# EAGLE library part SODIMM_BOARD (library BaseApp)
SODIMM BOARD Thickness of board must be 1mm.
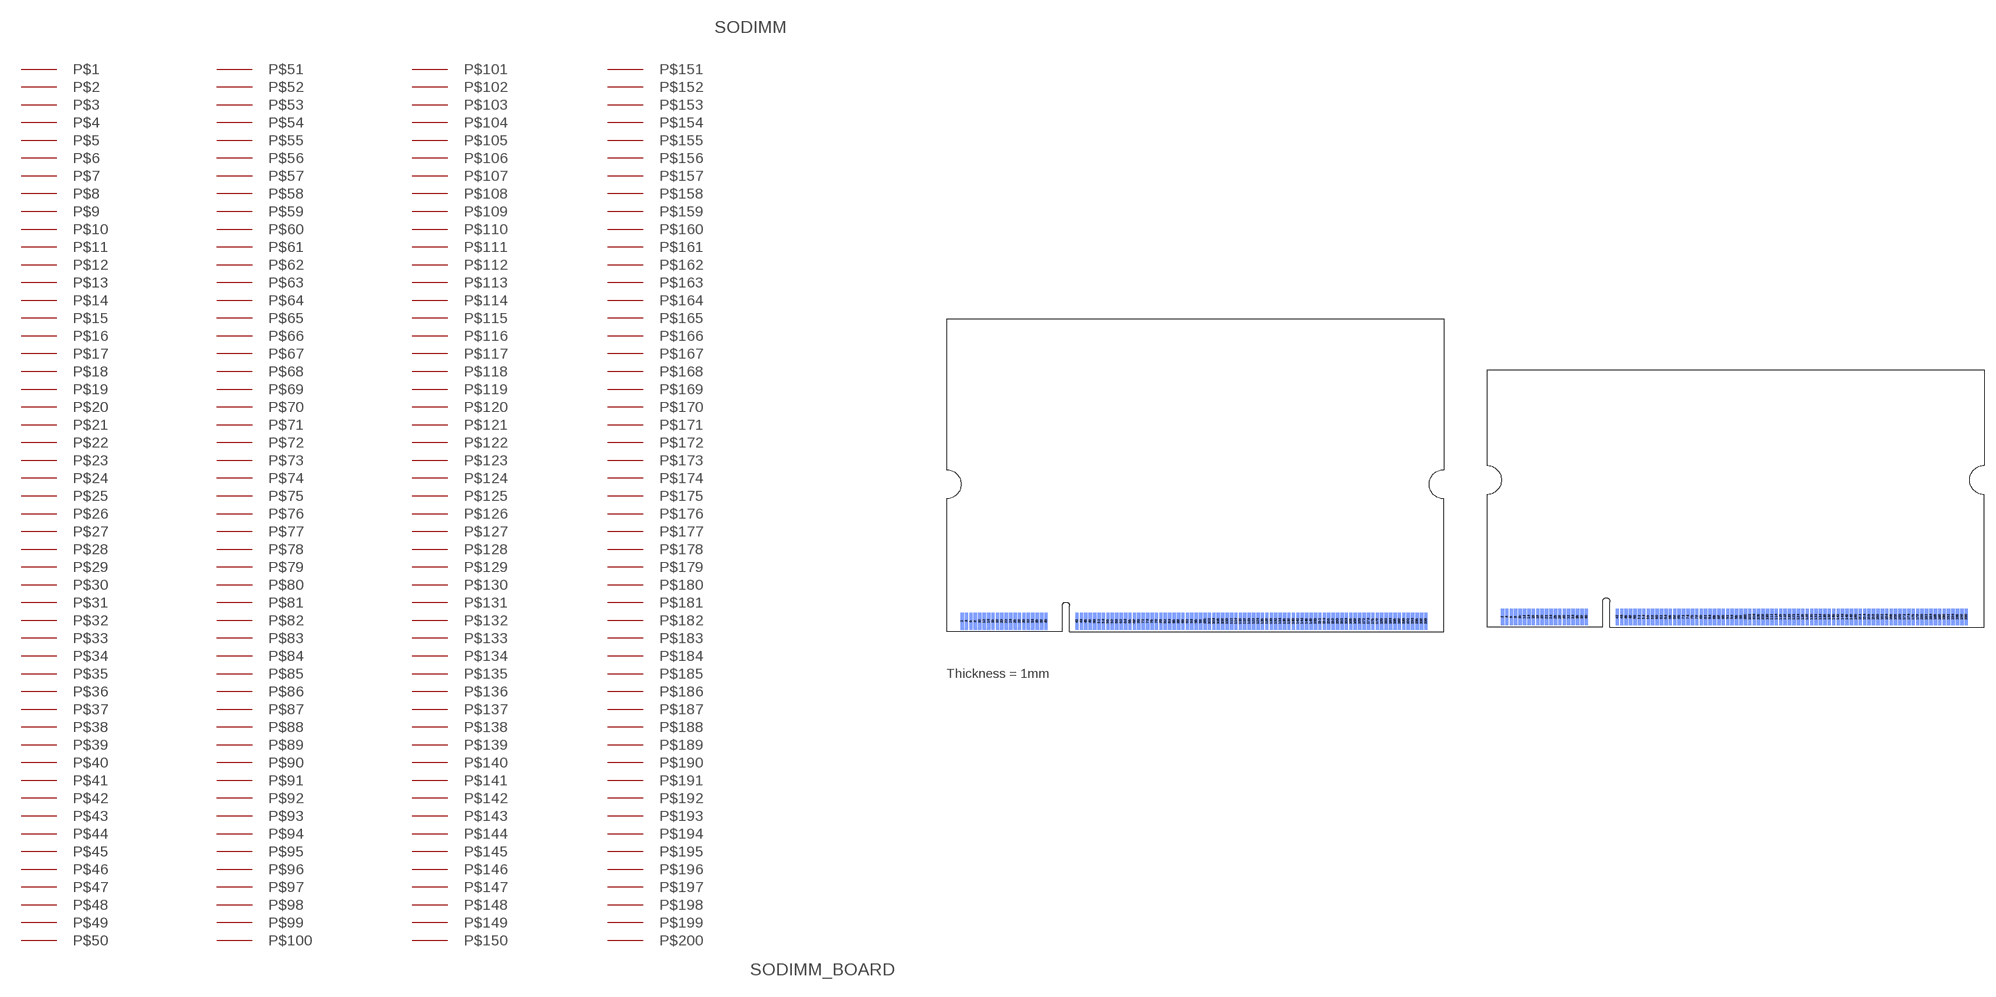
[diagram p11: symbol with the pads of SODIMM_BOARD-67.6X42.5; footprints SODIMM_BOARD-67.6X42.5, SODIMM_BOARD_SMALLER-67.6X35]

Designator prefix SODIMM

## SODIMM_BOARD  [SODIMM_BOARD-67.6X42.5]
1  P$1
2  P$2
3  P$3
4  P$4
5  P$5
6  P$6
7  P$7
8  P$8
9  P$9
10  P$10
11  P$11
12  P$12
13  P$13
14  P$14
15  P$15
16  P$16
17  P$17
18  P$18
19  P$19
20  P$20
21  P$21
22  P$22
23  P$23
24  P$24
25  P$25
26  P$26
27  P$27
28  P$28
29  P$29
30  P$30
31  P$31
32  P$32
33  P$33
34  P$34
35  P$35
36  P$36
37  P$37
38  P$38
39  P$39
40  P$40
41  P$41
42  P$42
43  P$43
44  P$44
45  P$45
46  P$46
47  P$47
48  P$48
49  P$49
50  P$50
51  P$51
52  P$52
53  P$53
54  P$54
55  P$55
56  P$56
57  P$57
58  P$58
59  P$59
60  P$60
61  P$61
62  P$62
63  P$63
64  P$64
65  P$65
66  P$66
67  P$67
68  P$68
69  P$69
70  P$70
71  P$71
72  P$72
73  P$73
74  P$74
75  P$75
76  P$76
77  P$77
78  P$78
79  P$79
80  P$80
81  P$81
82  P$82
83  P$83
84  P$84
85  P$85
86  P$86
87  P$87
88  P$88
89  P$89
90  P$90
91  P$91
92  P$92
93  P$93
94  P$94
95  P$95
96  P$96
97  P$97
98  P$98
99  P$99
100  P$100
101  P$101
102  P$102
103  P$103
104  P$104
105  P$105
106  P$106
107  P$107
108  P$108
109  P$109
110  P$110
111  P$111
112  P$112
113  P$113
114  P$114
115  P$115
116  P$116
117  P$117
118  P$118
119  P$119
120  P$120
121  P$121
122  P$122
123  P$123
124  P$124
125  P$125
126  P$126
127  P$127
128  P$128
129  P$129
130  P$130
131  P$131
132  P$132
133  P$133
134  P$134
135  P$135
136  P$136
137  P$137
138  P$138
139  P$139
140  P$140
141  P$141
142  P$142
143  P$143
144  P$144
145  P$145
146  P$146
147  P$147
148  P$148
149  P$149
150  P$150
151  P$151
152  P$152
153  P$153
154  P$154
155  P$155
156  P$156
157  P$157
158  P$158
159  P$159
160  P$160
161  P$161
162  P$162
163  P$163
164  P$164
165  P$165
166  P$166
167  P$167
168  P$168
169  P$169
170  P$170
171  P$171
172  P$172
173  P$173
174  P$174
175  P$175
176  P$176
177  P$177
178  P$178
179  P$179
180  P$180
181  P$181
182  P$182
183  P$183
184  P$184
185  P$185
186  P$186
187  P$187
188  P$188
189  P$189
190  P$190
191  P$191
192  P$192
193  P$193
194  P$194
195  P$195
196  P$196
197  P$197
198  P$198
199  P$199
200  P$200

## SODIMM_BOARDSMALL  [SODIMM_BOARD_SMALLER-67.6X35]
Pads as for SODIMM_BOARD-67.6X42.5

## SODIMM_BOARDLARGE  [SODIMM-BOARD-67.6X50]
Pads as for SODIMM_BOARD-67.6X42.5

## SODIMM_BOARD-CONNECTOR  [SODIMM-CONNECTOR-2.5V]
Pads as for SODIMM_BOARD-67.6X42.5

## Footprint SODIMM_BOARD-67.6X42.5 (pad centres in mm)
smd 0.45 x 2.3: 1 2.15,1.4; 3 2.75,1.4; 5 3.35,1.4; 7 3.95,1.4; 9 4.55,1.4; 11 5.15,1.4; 13 5.75,1.4; 15 6.35,1.4; 17 6.95,1.4; 19 7.55,1.4; 21 8.15,1.4; 23 8.75,1.4; 25 9.35,1.4; 27 9.95,1.4; 29 10.55,1.4; 31 11.15,1.4; 33 11.75,1.4; 35 12.35,1.4; 37 12.95,1.4; 39 13.55,1.4; 41 17.75,1.4; 43 18.35,1.4; 45 18.95,1.4; 47 19.55,1.4; 49 20.15,1.4; 51 20.75,1.4; 53 21.35,1.4; 55 21.95,1.4; 57 22.55,1.4; 59 23.15,1.4; 61 23.75,1.4; 63 24.35,1.4; 65 24.95,1.4; 67 25.55,1.4; 69 26.15,1.4; 71 26.75,1.4; 73 27.35,1.4; 75 27.95,1.4; 77 28.55,1.4; 79 29.15,1.4; 81 29.75,1.4; 83 30.35,1.4; 85 30.95,1.4; 87 31.55,1.4; 89 32.15,1.4; 91 32.75,1.4; 93 33.35,1.4; 95 33.95,1.4; 97 34.55,1.4; 99 35.15,1.4; 101 35.75,1.4; 103 36.35,1.4; 105 36.95,1.4; 107 37.55,1.4; 109 38.15,1.4; 111 38.75,1.4; 113 39.35,1.4; 115 39.95,1.4; 117 40.55,1.4; 119 41.15,1.4; 121 41.75,1.4; 123 42.35,1.4; 125 42.95,1.4; 127 43.55,1.4; 129 44.15,1.4; 131 44.75,1.4; 133 45.35,1.4; 135 45.95,1.4; 137 46.55,1.4; 139 47.15,1.4; 141 47.75,1.4; 143 48.35,1.4; 145 48.95,1.4; 147 49.55,1.4; 149 50.15,1.4; 151 50.75,1.4; 153 51.35,1.4; 155 51.95,1.4; 157 52.55,1.4; 159 53.15,1.4; 161 53.75,1.4; 163 54.35,1.4; 165 54.95,1.4; 167 55.55,1.4; 169 56.15,1.4; 171 56.75,1.4; 173 57.35,1.4; 175 57.95,1.4; 177 58.55,1.4; 179 59.15,1.4; 181 59.75,1.4; 183 60.35,1.4; 185 60.95,1.4; 187 61.55,1.4; 189 62.15,1.4; 191 62.75,1.4; 193 63.35,1.4; 195 63.95,1.4; 197 64.55,1.4; 199 65.15,1.4
smd 0.45 x 2.3 bottom: 2 2.15,1.4; 4 2.75,1.4; 6 3.35,1.4; 8 3.95,1.4; 10 4.55,1.4; 12 5.15,1.4; 14 5.75,1.4; 16 6.35,1.4; 18 6.95,1.4; 20 7.55,1.4; 22 8.15,1.4; 24 8.75,1.4; 26 9.35,1.4; 28 9.95,1.4; 30 10.55,1.4; 32 11.15,1.4; 34 11.75,1.4; 36 12.35,1.4; 38 12.95,1.4; 40 13.55,1.4; 42 17.75,1.4; 44 18.35,1.4; 46 18.95,1.4; 48 19.55,1.4; 50 20.15,1.4; 52 20.75,1.4; 54 21.35,1.4; 56 21.95,1.4; 58 22.55,1.4; 60 23.15,1.4; 62 23.75,1.4; 64 24.35,1.4; 66 24.95,1.4; 68 25.55,1.4; 70 26.15,1.4; 72 26.75,1.4; 74 27.35,1.4; 76 27.95,1.4; 78 28.55,1.4; 80 29.15,1.4; 82 29.75,1.4; 84 30.35,1.4; 86 30.95,1.4; 88 31.55,1.4; 90 32.15,1.4; 92 32.75,1.4; 94 33.35,1.4; 96 33.95,1.4; 98 34.55,1.4; 100 35.15,1.4; 102 35.75,1.4; 104 36.35,1.4; 106 36.95,1.4; 108 37.55,1.4; 110 38.15,1.4; 112 38.75,1.4; 114 39.35,1.4; 116 39.95,1.4; 118 40.55,1.4; 120 41.15,1.4; 122 41.75,1.4; 124 42.35,1.4; 126 42.95,1.4; 128 43.55,1.4; 130 44.15,1.4; 132 44.75,1.4; 134 45.35,1.4; 136 45.95,1.4; 138 46.55,1.4; 140 47.15,1.4; 142 47.75,1.4; 144 48.35,1.4; 146 48.95,1.4; 148 49.55,1.4; 150 50.15,1.4; 152 50.75,1.4; 154 51.35,1.4; 156 51.95,1.4; 158 52.55,1.4; 160 53.15,1.4; 162 53.75,1.4; 164 54.35,1.4; 166 54.95,1.4; 168 55.55,1.4; 170 56.15,1.4; 172 56.75,1.4; 174 57.35,1.4; 176 57.95,1.4; 178 58.55,1.4; 180 59.15,1.4; 182 59.75,1.4; 184 60.35,1.4; 186 60.95,1.4; 188 61.55,1.4; 190 62.15,1.4; 192 62.75,1.4; 194 63.35,1.4; 196 63.95,1.4; 198 64.55,1.4; 200 65.15,1.4

## Footprint SODIMM_BOARD_SMALLER-67.6X35 (pad centres in mm)
smd 0.45 x 2.3: 1 2.15,1.4; 3 2.75,1.4; 5 3.35,1.4; 7 3.95,1.4; 9 4.55,1.4; 11 5.15,1.4; 13 5.75,1.4; 15 6.35,1.4; 17 6.95,1.4; 19 7.55,1.4; 21 8.15,1.4; 23 8.75,1.4; 25 9.35,1.4; 27 9.95,1.4; 29 10.55,1.4; 31 11.15,1.4; 33 11.75,1.4; 35 12.35,1.4; 37 12.95,1.4; 39 13.55,1.4; 41 17.75,1.4; 43 18.35,1.4; 45 18.95,1.4; 47 19.55,1.4; 49 20.15,1.4; 51 20.75,1.4; 53 21.35,1.4; 55 21.95,1.4; 57 22.55,1.4; 59 23.15,1.4; 61 23.75,1.4; 63 24.35,1.4; 65 24.95,1.4; 67 25.55,1.4; 69 26.15,1.4; 71 26.75,1.4; 73 27.35,1.4; 75 27.95,1.4; 77 28.55,1.4; 79 29.15,1.4; 81 29.75,1.4; 83 30.35,1.4; 85 30.95,1.4; 87 31.55,1.4; 89 32.15,1.4; 91 32.75,1.4; 93 33.35,1.4; 95 33.95,1.4; 97 34.55,1.4; 99 35.15,1.4; 101 35.75,1.4; 103 36.35,1.4; 105 36.95,1.4; 107 37.55,1.4; 109 38.15,1.4; 111 38.75,1.4; 113 39.35,1.4; 115 39.95,1.4; 117 40.55,1.4; 119 41.15,1.4; 121 41.75,1.4; 123 42.35,1.4; 125 42.95,1.4; 127 43.55,1.4; 129 44.15,1.4; 131 44.75,1.4; 133 45.35,1.4; 135 45.95,1.4; 137 46.55,1.4; 139 47.15,1.4; 141 47.75,1.4; 143 48.35,1.4; 145 48.95,1.4; 147 49.55,1.4; 149 50.15,1.4; 151 50.75,1.4; 153 51.35,1.4; 155 51.95,1.4; 157 52.55,1.4; 159 53.15,1.4; 161 53.75,1.4; 163 54.35,1.4; 165 54.95,1.4; 167 55.55,1.4; 169 56.15,1.4; 171 56.75,1.4; 173 57.35,1.4; 175 57.95,1.4; 177 58.55,1.4; 179 59.15,1.4; 181 59.75,1.4; 183 60.35,1.4; 185 60.95,1.4; 187 61.55,1.4; 189 62.15,1.4; 191 62.75,1.4; 193 63.35,1.4; 195 63.95,1.4; 197 64.55,1.4; 199 65.15,1.4
smd 0.45 x 2.3 bottom: 2 2.15,1.4; 4 2.75,1.4; 6 3.35,1.4; 8 3.95,1.4; 10 4.55,1.4; 12 5.15,1.4; 14 5.75,1.4; 16 6.35,1.4; 18 6.95,1.4; 20 7.55,1.4; 22 8.15,1.4; 24 8.75,1.4; 26 9.35,1.4; 28 9.95,1.4; 30 10.55,1.4; 32 11.15,1.4; 34 11.75,1.4; 36 12.35,1.4; 38 12.95,1.4; 40 13.55,1.4; 42 17.75,1.4; 44 18.35,1.4; 46 18.95,1.4; 48 19.55,1.4; 50 20.15,1.4; 52 20.75,1.4; 54 21.35,1.4; 56 21.95,1.4; 58 22.55,1.4; 60 23.15,1.4; 62 23.75,1.4; 64 24.35,1.4; 66 24.95,1.4; 68 25.55,1.4; 70 26.15,1.4; 72 26.75,1.4; 74 27.35,1.4; 76 27.95,1.4; 78 28.55,1.4; 80 29.15,1.4; 82 29.75,1.4; 84 30.35,1.4; 86 30.95,1.4; 88 31.55,1.4; 90 32.15,1.4; 92 32.75,1.4; 94 33.35,1.4; 96 33.95,1.4; 98 34.55,1.4; 100 35.15,1.4; 102 35.75,1.4; 104 36.35,1.4; 106 36.95,1.4; 108 37.55,1.4; 110 38.15,1.4; 112 38.75,1.4; 114 39.35,1.4; 116 39.95,1.4; 118 40.55,1.4; 120 41.15,1.4; 122 41.75,1.4; 124 42.35,1.4; 126 42.95,1.4; 128 43.55,1.4; 130 44.15,1.4; 132 44.75,1.4; 134 45.35,1.4; 136 45.95,1.4; 138 46.55,1.4; 140 47.15,1.4; 142 47.75,1.4; 144 48.35,1.4; 146 48.95,1.4; 148 49.55,1.4; 150 50.15,1.4; 152 50.75,1.4; 154 51.35,1.4; 156 51.95,1.4; 158 52.55,1.4; 160 53.15,1.4; 162 53.75,1.4; 164 54.35,1.4; 166 54.95,1.4; 168 55.55,1.4; 170 56.15,1.4; 172 56.75,1.4; 174 57.35,1.4; 176 57.95,1.4; 178 58.55,1.4; 180 59.15,1.4; 182 59.75,1.4; 184 60.35,1.4; 186 60.95,1.4; 188 61.55,1.4; 190 62.15,1.4; 192 62.75,1.4; 194 63.35,1.4; 196 63.95,1.4; 198 64.55,1.4; 200 65.15,1.4

## Footprint SODIMM-BOARD-67.6X50 (pad centres in mm)
smd 0.45 x 2.3: 1 2.15,1.4; 3 2.75,1.4; 5 3.35,1.4; 7 3.95,1.4; 9 4.55,1.4; 11 5.15,1.4; 13 5.75,1.4; 15 6.35,1.4; 17 6.95,1.4; 19 7.55,1.4; 21 8.15,1.4; 23 8.75,1.4; 25 9.35,1.4; 27 9.95,1.4; 29 10.55,1.4; 31 11.15,1.4; 33 11.75,1.4; 35 12.35,1.4; 37 12.95,1.4; 39 13.55,1.4; 41 17.75,1.4; 43 18.35,1.4; 45 18.95,1.4; 47 19.55,1.4; 49 20.15,1.4; 51 20.75,1.4; 53 21.35,1.4; 55 21.95,1.4; 57 22.55,1.4; 59 23.15,1.4; 61 23.75,1.4; 63 24.35,1.4; 65 24.95,1.4; 67 25.55,1.4; 69 26.15,1.4; 71 26.75,1.4; 73 27.35,1.4; 75 27.95,1.4; 77 28.55,1.4; 79 29.15,1.4; 81 29.75,1.4; 83 30.35,1.4; 85 30.95,1.4; 87 31.55,1.4; 89 32.15,1.4; 91 32.75,1.4; 93 33.35,1.4; 95 33.95,1.4; 97 34.55,1.4; 99 35.15,1.4; 101 35.75,1.4; 103 36.35,1.4; 105 36.95,1.4; 107 37.55,1.4; 109 38.15,1.4; 111 38.75,1.4; 113 39.35,1.4; 115 39.95,1.4; 117 40.55,1.4; 119 41.15,1.4; 121 41.75,1.4; 123 42.35,1.4; 125 42.95,1.4; 127 43.55,1.4; 129 44.15,1.4; 131 44.75,1.4; 133 45.35,1.4; 135 45.95,1.4; 137 46.55,1.4; 139 47.15,1.4; 141 47.75,1.4; 143 48.35,1.4; 145 48.95,1.4; 147 49.55,1.4; 149 50.15,1.4; 151 50.75,1.4; 153 51.35,1.4; 155 51.95,1.4; 157 52.55,1.4; 159 53.15,1.4; 161 53.75,1.4; 163 54.35,1.4; 165 54.95,1.4; 167 55.55,1.4; 169 56.15,1.4; 171 56.75,1.4; 173 57.35,1.4; 175 57.95,1.4; 177 58.55,1.4; 179 59.15,1.4; 181 59.75,1.4; 183 60.35,1.4; 185 60.95,1.4; 187 61.55,1.4; 189 62.15,1.4; 191 62.75,1.4; 193 63.35,1.4; 195 63.95,1.4; 197 64.55,1.4; 199 65.15,1.4
smd 0.45 x 2.3 bottom: 2 2.15,1.4; 4 2.75,1.4; 6 3.35,1.4; 8 3.95,1.4; 10 4.55,1.4; 12 5.15,1.4; 14 5.75,1.4; 16 6.35,1.4; 18 6.95,1.4; 20 7.55,1.4; 22 8.15,1.4; 24 8.75,1.4; 26 9.35,1.4; 28 9.95,1.4; 30 10.55,1.4; 32 11.15,1.4; 34 11.75,1.4; 36 12.35,1.4; 38 12.95,1.4; 40 13.55,1.4; 42 17.75,1.4; 44 18.35,1.4; 46 18.95,1.4; 48 19.55,1.4; 50 20.15,1.4; 52 20.75,1.4; 54 21.35,1.4; 56 21.95,1.4; 58 22.55,1.4; 60 23.15,1.4; 62 23.75,1.4; 64 24.35,1.4; 66 24.95,1.4; 68 25.55,1.4; 70 26.15,1.4; 72 26.75,1.4; 74 27.35,1.4; 76 27.95,1.4; 78 28.55,1.4; 80 29.15,1.4; 82 29.75,1.4; 84 30.35,1.4; 86 30.95,1.4; 88 31.55,1.4; 90 32.15,1.4; 92 32.75,1.4; 94 33.35,1.4; 96 33.95,1.4; 98 34.55,1.4; 100 35.15,1.4; 102 35.75,1.4; 104 36.35,1.4; 106 36.95,1.4; 108 37.55,1.4; 110 38.15,1.4; 112 38.75,1.4; 114 39.35,1.4; 116 39.95,1.4; 118 40.55,1.4; 120 41.15,1.4; 122 41.75,1.4; 124 42.35,1.4; 126 42.95,1.4; 128 43.55,1.4; 130 44.15,1.4; 132 44.75,1.4; 134 45.35,1.4; 136 45.95,1.4; 138 46.55,1.4; 140 47.15,1.4; 142 47.75,1.4; 144 48.35,1.4; 146 48.95,1.4; 148 49.55,1.4; 150 50.15,1.4; 152 50.75,1.4; 154 51.35,1.4; 156 51.95,1.4; 158 52.55,1.4; 160 53.15,1.4; 162 53.75,1.4; 164 54.35,1.4; 166 54.95,1.4; 168 55.55,1.4; 170 56.15,1.4; 172 56.75,1.4; 174 57.35,1.4; 176 57.95,1.4; 178 58.55,1.4; 180 59.15,1.4; 182 59.75,1.4; 184 60.35,1.4; 186 60.95,1.4; 188 61.55,1.4; 190 62.15,1.4; 192 62.75,1.4; 194 63.35,1.4; 196 63.95,1.4; 198 64.55,1.4; 200 65.15,1.4

## Footprint SODIMM-CONNECTOR-2.5V (pad centres in mm)
smd 0.35 x 2: 1 28.84,18.07; 2 28.54,9.87; 3 28.24,18.07; 4 27.94,9.87; 5 27.64,18.07; 6 27.34,9.87; 7 27.04,18.07; 8 26.74,9.87; 9 26.44,18.07; 10 26.14,9.87; 11 25.84,18.07; 12 25.54,9.87; 13 25.24,18.07; 14 24.94,9.87; 15 24.64,18.07; 16 24.34,9.87; 17 24.04,18.07; 18 23.74,9.87; 19 23.44,18.07; 20 23.14,9.87; 21 22.84,18.07; 22 22.54,9.87; 23 22.24,18.07; 24 21.94,9.87; 25 21.64,18.07; 26 21.34,9.87; 27 21.04,18.07; 28 20.74,9.87; 29 20.44,18.07; 30 20.14,9.87; 31 19.84,18.07; 32 19.54,9.87; 33 19.24,18.07; 34 18.94,9.87; 35 18.64,18.07; 36 18.34,9.87; 37 18.04,18.07; 38 17.74,9.87; 39 17.44,18.07; 40 17.14,9.87; 41 13.24,18.07; 42 12.94,9.87; 43 12.64,18.07; 44 12.34,9.87; 45 12.04,18.07; 46 11.74,9.87; 47 11.44,18.07; 48 11.14,9.87; 49 10.84,18.07; 50 10.54,9.87; 51 10.24,18.07; 52 9.94,9.87; 53 9.64,18.07; 54 9.34,9.87; 55 9.04,18.07; 56 8.74,9.87; 57 8.44,18.07; 58 8.14,9.87; 59 7.84,18.07; 60 7.54,9.87; 61 7.24,18.07; 62 6.94,9.87; 63 6.64,18.07; 64 6.34,9.87; 65 6.04,18.07; 66 5.74,9.87; 67 5.44,18.07; 68 5.14,9.87; 69 4.84,18.07; 70 4.54,9.87; 71 4.24,18.07; 72 3.94,9.87; 73 3.64,18.07; 74 3.34,9.87; 75 3.04,18.07; 76 2.74,9.87; 77 2.44,18.07; 78 2.14,9.87; 79 1.84,18.07; 80 1.54,9.87; 81 1.24,18.07; 82 0.94,9.87; 83 0.64,18.07; 84 0.34,9.87; 85 0.04,18.07; 86 -0.26,9.87; 87 -0.56,18.07; 88 -0.86,9.87; 89 -1.16,18.07; 90 -1.46,9.87; 91 -1.76,18.07; 92 -2.06,9.87; 93 -2.36,18.07; 94 -2.66,9.87; 95 -2.96,18.07; 96 -3.26,9.87; 97 -3.56,18.07; 98 -3.86,9.87; 99 -4.16,18.07; 100 -4.46,9.87; 101 -4.76,18.07; 102 -5.06,9.87; 103 -5.36,18.07; 104 -5.66,9.87; 105 -5.96,18.07; 106 -6.26,9.87; 107 -6.56,18.07; 108 -6.86,9.87; 109 -7.16,18.07; 110 -7.46,9.87; 111 -7.76,18.07; 112 -8.06,9.87; 113 -8.36,18.07; 114 -8.66,9.87; 115 -8.96,18.07; 116 -9.26,9.87; 117 -9.56,18.07; 118 -9.86,9.87; 119 -10.16,18.07; 120 -10.46,9.87; 121 -10.76,18.07; 122 -11.06,9.87; 123 -11.36,18.07; 124 -11.66,9.87; 125 -11.96,18.07; 126 -12.26,9.87; 127 -12.56,18.07; 128 -12.86,9.87; 129 -13.16,18.07; 130 -13.46,9.87; 131 -13.76,18.07; 132 -14.06,9.87; 133 -14.36,18.07; 134 -14.66,9.87; 135 -14.96,18.07; 136 -15.26,9.87; 137 -15.56,18.07; 138 -15.86,9.87; 139 -16.16,18.07; 140 -16.46,9.87; 141 -16.76,18.07; 142 -17.06,9.87; 143 -17.36,18.07; 144 -17.66,9.87; 145 -17.96,18.07; 146 -18.26,9.87; 147 -18.56,18.07; 148 -18.86,9.87; 149 -19.16,18.07; 150 -19.46,9.87; 151 -19.76,18.07; 152 -20.06,9.87; 153 -20.36,18.07; 154 -20.66,9.87; 155 -20.96,18.07; 156 -21.26,9.87; 157 -21.56,18.07; 158 -21.86,9.87; 159 -22.16,18.07; 160 -22.46,9.87; 161 -22.76,18.07; 162 -23.06,9.87; 163 -23.36,18.07; 164 -23.66,9.87; 165 -23.96,18.07; 166 -24.26,9.87; 167 -24.56,18.07; 168 -24.86,9.87; 169 -25.16,18.07; 170 -25.46,9.87; 171 -25.76,18.07; 172 -26.06,9.87; 173 -26.36,18.07; 174 -26.66,9.87; 175 -26.96,18.07; 176 -27.26,9.87; 177 -27.56,18.07; 178 -27.86,9.87; 179 -28.16,18.07; 180 -28.46,9.87; 181 -28.76,18.07; 182 -29.06,9.87; 183 -29.36,18.07; 184 -29.66,9.87; 185 -29.96,18.07; 186 -30.26,9.87; 187 -30.56,18.07; 188 -30.86,9.87; 189 -31.16,18.07; 190 -31.46,9.87; 191 -31.76,18.07; 192 -32.06,9.87; 193 -32.36,18.07; 194 -32.66,9.87; 195 -32.96,18.07; 196 -33.26,9.87; 197 -33.56,18.07; 198 -33.86,9.87; 199 -34.16,18.07; 200 -34.46,9.87
smd 4.5 x 4.6: M1 29.74,1.97; M2 -35.36,1.97